# EAGLE library part RESISTOR-NETWORK-4I (library Others)
Isolated Resistor Network (4x) Created by: Wai Weng
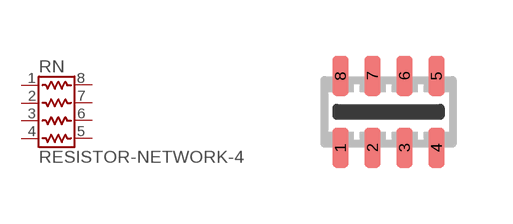
[diagram p2: symbol with the pads of RN-3216; footprint RN-3216]

Designator prefix RN

## RESISTOR-NETWORK-4I_10K_(3216) (CYTRON-PC: S-RN-10K-1206; DESC: SMD Resistor Network (Isolated); VALUE: 10K), RESISTOR-NETWORK-4I_1K_(3216) (CYTRON-PC: S-RN-1K-1206; DESC: SMD Resistor Network (Isolated); VALUE: 1K), RESISTOR-NETWORK-4I_33R_(3216) (DESC: SMD Resistor Network (Isolated); VALUE: 33R)  [RN-3216]
1  1  pas
2  2  pas
3  3  pas
4  4  pas
5  5  pas
6  6  pas
7  7  pas
8  8  pas

## Footprint RN-3216 (pad centres in mm)
SMD Resistor Network Size: 3.2mm x 1.6mm Created by: Wai Weng Modification: 1. Wai Weng - Make the pad longer but thinner. 2. Ober (28Apr15) - Make the pad longer for better rework process.
smd 0.4 x 1: 1 -1.2,-0.9; 2 -0.4,-0.9; 3 0.4,-0.9; 4 1.2,-0.9; 5 1.2,0.9; 6 0.4,0.9; 7 -0.4,0.9; 8 -1.2,0.9